# EAGLE library part PI-ZERO-SOCKET (library pi-wall-socket)
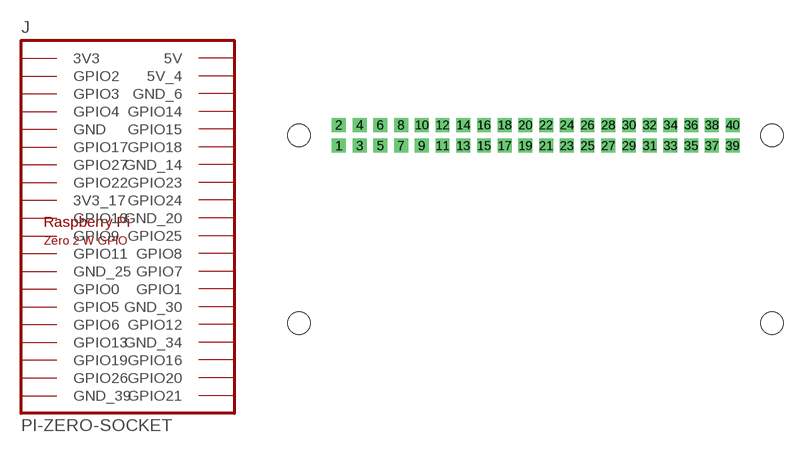
[diagram p3: symbol with the pads of PIZERO; footprint PIZERO]

Designator prefix J

## PI-ZERO-SOCKET  [PIZERO]
1  3V3  pas
2  5V  pas
3  GPIO2  pas
4  5V_4  pas
5  GPIO3  pas
6  GND_6  pas
7  GPIO4  pas
8  GPIO14  pas
9  GND  pas
10  GPIO15  pas
11  GPIO17  pas
12  GPIO18  pas
13  GPIO27  pas
14  GND_14  pas
15  GPIO22  pas
16  GPIO23  pas
17  3V3_17  pas
18  GPIO24  pas
19  GPIO10  pas
20  GND_20  pas
21  GPIO9  pas
22  GPIO25  pas
23  GPIO11  pas
24  GPIO8  pas
25  GND_25  pas
26  GPIO7  pas
27  GPIO0  pas
28  GPIO1  pas
29  GPIO5  pas
30  GND_30  pas
31  GPIO6  pas
32  GPIO12  pas
33  GPIO13  pas
34  GND_34  pas
35  GPIO19  pas
36  GPIO16  pas
37  GPIO26  pas
38  GPIO20  pas
39  GND_39  pas
40  GPIO21  pas

## Footprint PIZERO (pad centres in mm)
Raspberry Pi Zero / Zero 2 W template: 2x20 header pads plus the four M2.5 corner holes at 58 x 23 mm, board outline 65 x 30 mm
drill 1 pad 1.7 square: 1 8.4,25.25; 2 8.4,27.79; 3 10.94,25.25; 4 10.94,27.79; 5 13.48,25.25; 6 13.48,27.79; 7 16.02,25.25; 8 16.02,27.79; 9 18.56,25.25; 10 18.56,27.79; 11 21.1,25.25; 12 21.1,27.79; 13 23.64,25.25; 14 23.64,27.79; 15 26.18,25.25; 16 26.18,27.79; 17 28.72,25.25; 18 28.72,27.79; 19 31.26,25.25; 20 31.26,27.79; 21 33.8,25.25; 22 33.8,27.79; 23 36.34,25.25; 24 36.34,27.79; 25 38.88,25.25; 26 38.88,27.79; 27 41.42,25.25; 28 41.42,27.79; 29 43.96,25.25; 30 43.96,27.79; 31 46.5,25.25; 32 46.5,27.79; 33 49.04,25.25; 34 49.04,27.79; 35 51.58,25.25; 36 51.58,27.79; 37 54.12,25.25; 38 54.12,27.79; 39 56.66,25.25; 40 56.66,27.79
hole 2.75 at 61.5,3.5
hole 2.75 at 61.5,26.5
hole 2.75 at 3.5,26.5
hole 2.75 at 3.5,3.5